# Altium schematic symbol library Temperature and Humidity.SCHLIB: 4 symbols
Pins are listed as number, name and electrical type; pins without a type are passive.

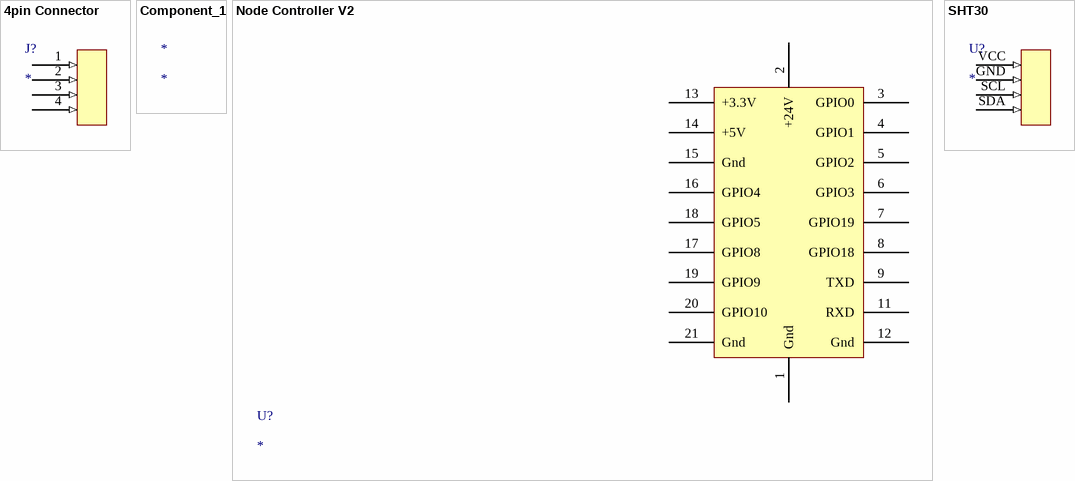
[diagram p0: symbols 4pin Connector to SHT30]

## 4pin Connector
designator J?
pins: 1 (in), 2 (in), 3 (in), 4 (in)

## Component_1
designator *

## Node Controller V2
designator U?
pins: 1 Gnd "Ground", 2 +24V, 3 GPIO0, 4 GPIO1, 5 GPIO2, 6 GPIO3, 7 GPIO19, 8 GPIO18, 9 TXD, 11 RXD, 12 Gnd "Ground", 13 +3.3V, 14 +5V, 15 Gnd "Ground", 16 GPIO4, 17 GPIO8 "GPIO5", 18 GPIO5 "GPIO8", 19 GPIO9, 20 GPIO10, 21 Gnd "Ground"

## SHT30
designator U?
pins: GND (in), SCL (in), SDA (in), VCC (in)